# EAGLE library part HLSR_16-P (library HLSR_16-P)
LEM - HLSR 16-P - CURRENT SENSOR, 16A, VOLTAGE O/P, 5VDC Source: Datasheet <http://www.lem.com/docs/products/hlsr-p_series.pdf>
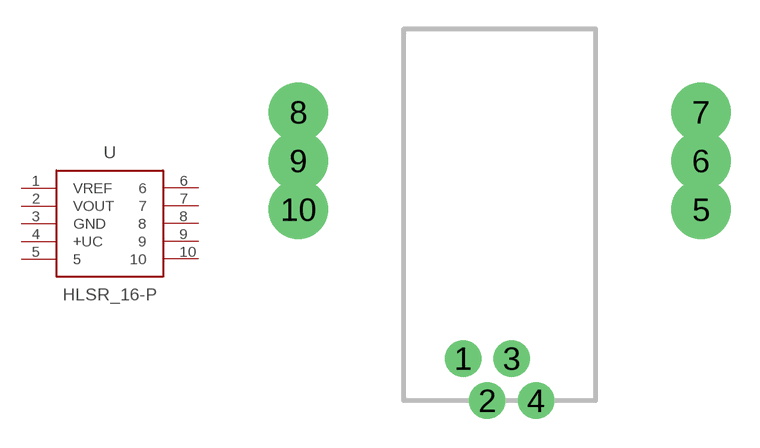
[diagram p0: symbol with the pads of HLSR16-P; footprint HLSR16-P]

Designator prefix U

## HLSR_16-P (Description: LEM - HLSR 16-P - CURRENT SENSOR, 16A, VOLTAGE O/P, 5VDC; Height: mm; Manufacturer_Name: LEM; Manufacturer_Part_Number: HLSR 16-P; Supplier_Name: RS)  [HLSR16-P]
1  VREF  pas
2  VOUT  pas
3  GND  pas
4  +UC  pas
5  5  pas
6  6  pas
7  7  pas
8  8  pas
9  9  pas
10  10  pas

## Footprint HLSR16-P (pad centres in mm)
HLSR16-P
drill 1.15 pad 1.9: 1 3.09,-17.2; 2 4.36,-19.4; 3 5.63,-17.2; 4 6.9,-19.4
drill 1.75 pad 3.1: 5 15.5,-9.43; 6 15.5,-6.89; 7 15.5,-4.35; 8 -5.5,-4.35; 9 -5.5,-6.89; 10 -5.5,-9.43